# Altium footprint library SOT-2395P240X100-3L.PcbLib: 1 footprints
Each footprint in its own frame and in the unit in brackets; x right, y up, seen from the top. Pads: shape width x height; smd on the part's side, far side on the other; paste and mask are expansions set on the pad; w line width, h text height; cw(c..) or ccw(c..) is an arc to the next point about the centre after c.
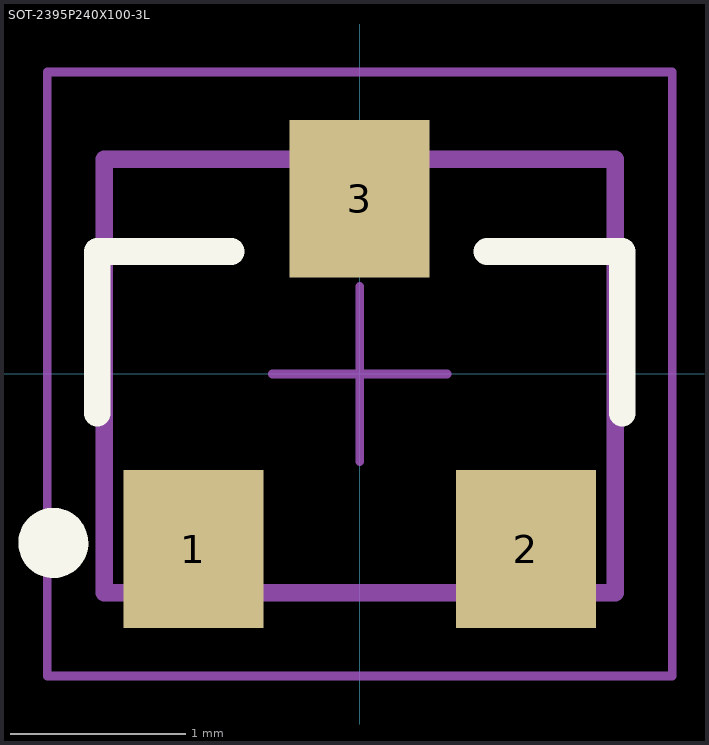
[diagram p0: the footprint, top view; thin cyan lines are the x and y axes]

## SOT-2395P240X100-3L [mm] "Pin spacing 1.9(mm) 3D Body2.9x1.3(mm)High1.025(mm)"
height 1.025
pads (3):
  rect 0.8x0.9 smd: 1(-0.95,-1) 3(0,1)
  rect 0.8x0.9 smd paste+0: 2(0.95,-1)
Top Overlay:
  lines w0.152: -1.5,-0.225 -1.5,0.7 -0.735,0.7 ; 0.727,0.7 1.5,0.7 1.5,-0.225
  lines w0.2: -1.719,-0.87 ccw(c-1.75,-0.965) -1.707,-0.875
Mechanical 13:
  circle w0.05: c-0.965,-0.838 r0.218
  lines w0.1: -1.46,-1.25 1.46,-1.25 1.46,1.226 -1.46,1.226 -1.46,-1.25
Mechanical 15:
  lines w0.05: -0.5,0 0.5,0 ; 0,-0.5 0,0.5 ; -1.785,-1.725 -1.785,1.725 1.785,1.725 1.785,-1.725 -1.785,-1.725
3D body: height 0.9, standoff -0.05, extent -1.45,-1.202 1.45,1.202